# Altium schematic symbol library USB4500-03-1-A.SchLib: 1 symbol
Pins are listed as number, name and electrical type; pins without a type are passive.

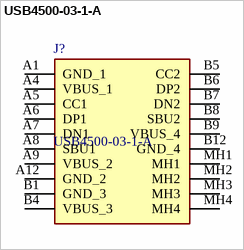
[diagram p0: symbol USB4500-03-1-A]

## USB4500-03-1-A
designator J?
USB Connectors USB C Rec 16P 3u" Mid Mnt 0.8mm O-set SMT L = 6.5mm S-Spring-1; Manufacturer_Name: GCT (GLOBAL CONNECTOR TECHNOLOGY); Geometry.Height: 3.36mm; Manufacturer_Part_Number: USB4500-03-1-A; Mouser Part Number: 640-USB4500031A; Mouser Price/Stock: https://www.mouser.co.uk/ProductDetail/GCT/USB4500-03-1-A?qs=7D1LtPJG0i0Bl4gt1pUZZw%3D%3D; Arrow Part Number: *; Arrow Price/Stock: *; Datasheet Link: https://pl.mouser.com/datasheet/2/837/usb4500-2583670.pdf
footprint USB4500031A
pins: A1 GND_1, A4 VBUS_1, A5 CC1, A6 DP1, A7 DN1, A8 SBU1, A9 VBUS_2, A12 GND_2, B1 GND_3, B4 VBUS_3, B5 CC2, B6 DP2, B7 DN2, B8 SBU2, B9 VBUS_4, B12 GND_4, MH1, MH2, MH3, MH4